# Altium footprint library Conn.RF.PcbLib: 11 footprints
Each footprint in its own frame and in the unit in brackets; x right, y up, seen from the top. Pads: shape width x height; smd on the part's side, far side on the other; paste and mask are expansions set on the pad; w line width, h text height; cw(c..) or ccw(c..) is an arc to the next point about the centre after c.
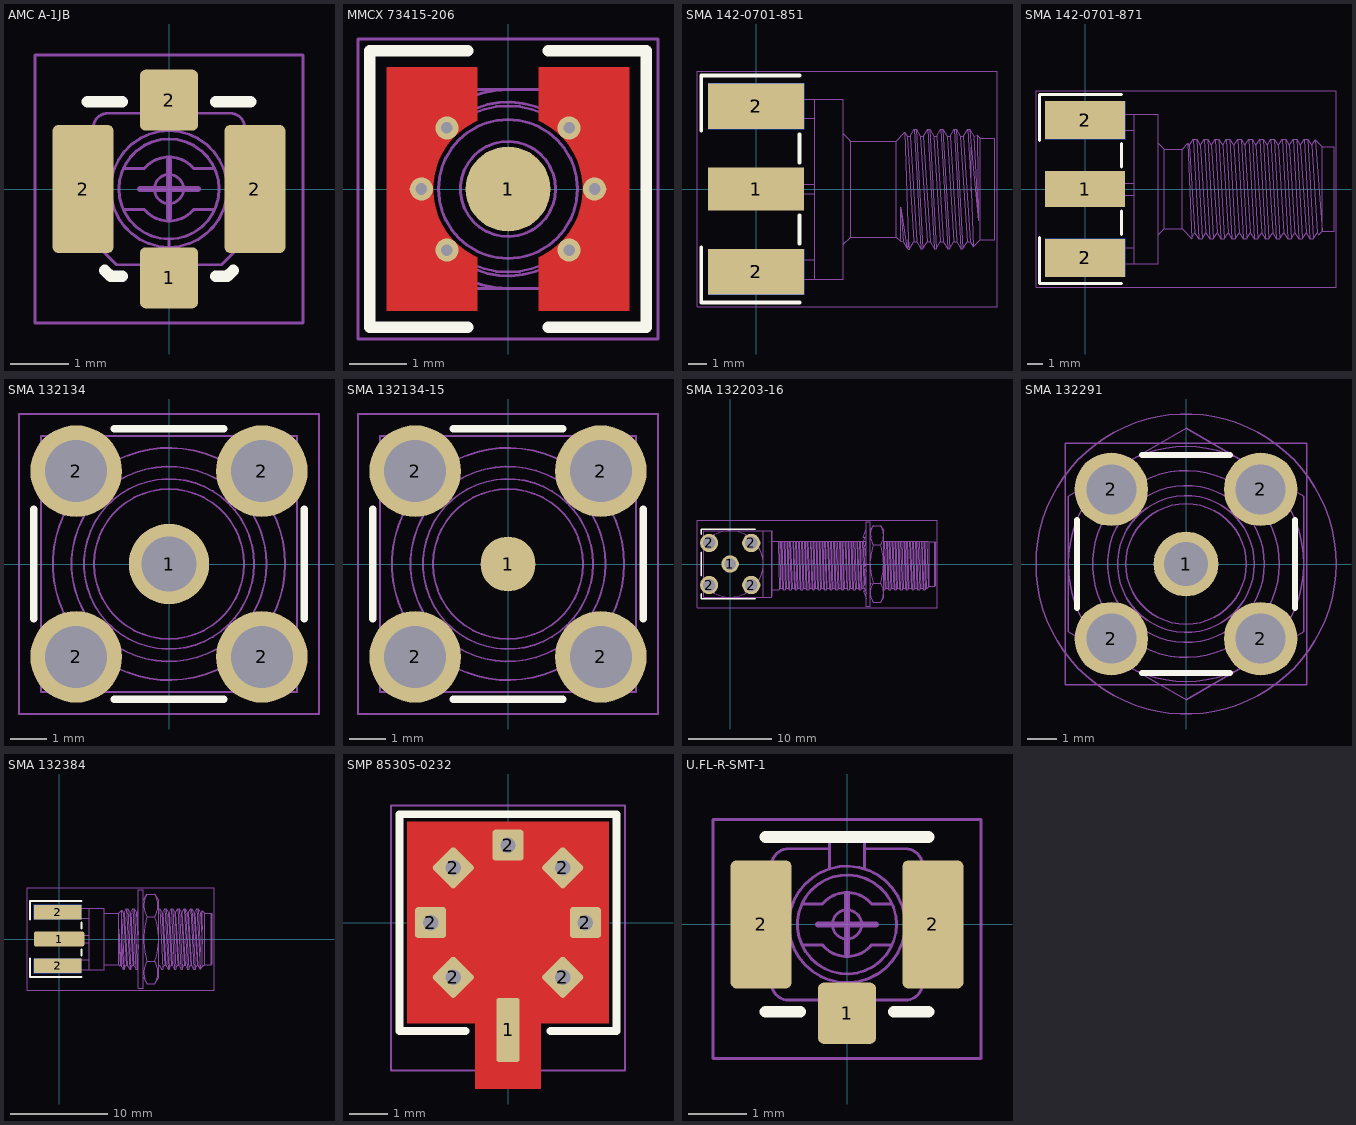
[diagram p0: the footprints below, top view; thin cyan lines are the x and y axes]

## AMC A-1JB [mm] "Amphenol AMC Connector, 3.00x3.10mm"
height 1.35
pads (4):
  rrect20% 1x1.05 smd: 1(0,-1.525) 2(0,1.525)
  rrect20% 1.05x2.2 smd: 2(-1.475,0) 2(1.475,0)
Top Overlay:
  lines w0.2: -1.4,1.5 -0.8,1.5 ; -1.1,-1.4 -1,-1.5 -0.8,-1.5 ; 0.8,-1.5 1,-1.5 1.1,-1.4 ; 0.8,1.5 1.4,1.5
Mechanical 1:
  circle w0.05: c0,0 r0.25
  lines w0.05: -1.3,0.9 -1.5,0.9 -1.5,-0.9 -1.3,-0.9 ; -0.786,-0.35 -0.424,-0.35 ccw(c0,0) 0.424,-0.35 0.786,-0.35 ; -0.786,0.35 -0.424,0.35 cw(c0,0) 0.424,0.35 0.786,0.35 ; -0.3,-1.3 -0.3,-1.55 0.3,-1.55 0.3,-1.3 ; -0.3,1.3 -0.3,1.55 0.3,1.55 0.3,1.3 ; 1.3,0.9 1.5,0.9 1.5,-0.9 1.3,-0.9 ; -1.3,-0.9 -0.9,-1.3 0.9,-1.3 1.3,-0.9 ; -1.3,-0.9 -1.3,1.05 cw(c-1.05,1.05) -1.05,1.3 1.05,1.3 cw(c1.05,1.05) 1.3,1.05 1.3,-0.9 ; -0.005,-1 cw(c0,0) 0.005,-1 0.005,-0.86 ccw(c0,0) -0.005,-0.86 -0.005,-1
Mechanical 15:
  lines w0.05: -2.3,-2.3 2.3,-2.3 2.3,2.3 -2.3,2.3 -2.3,-2.3
  lines w0.1: -0.5,0 0.5,0 ; 0,-0.5 0,0.5
3D body "A-1JB.STEP": height 1.25, standoff 0, extent -1.5,-1.55 1.5,1.55

## MMCX 73415-206 [mm] "Molex MMCX Vertical Jack"
height 5
pads (4):
  round 1.47 smd: 1(0,0) 1(0,0)
  round 0.025 smd: 2(-1.702,0) 2(1.703,0)
via 1.5,0 diameter 0.4 hole 0.2
via 1.061,-1.061 diameter 0.4 hole 0.2
via 1.061,1.061 diameter 0.4 hole 0.2
via -1.061,-1.061 diameter 0.4 hole 0.2
via -1.061,1.061 diameter 0.4 hole 0.2
via -1.5,0 diameter 0.4 hole 0.2
Top Layer:
  region: 2.105,-2.11 0.535,-2.11 0.535,-1.18 0.602,-1.148 0.73,-1.072 0.848,-0.982 0.955,-0.879 1.05,-0.764 1.131,-0.64 1.197,-0.506 1.247,-0.367 1.281,-0.222 1.298,-0.074 1.298,0.074 1.281,0.222 1.247,0.367 1.197,0.506 1.131,0.639 1.05,0.764 0.955,0.879 0.848,0.982 0.73,1.072 0.602,1.147 0.535,1.18 0.535,2.11 2.105,2.11
  region: -2.105,-2.11 -0.535,-2.11 -0.535,-1.18 -0.602,-1.148 -0.73,-1.072 -0.848,-0.982 -0.955,-0.879 -1.05,-0.764 -1.131,-0.64 -1.197,-0.506 -1.247,-0.367 -1.281,-0.222 -1.298,-0.074 -1.298,0.074 -1.281,0.222 -1.247,0.367 -1.197,0.506 -1.131,0.639 -1.05,0.764 -0.955,0.879 -0.848,0.982 -0.73,1.072 -0.602,1.147 -0.535,1.18 -0.535,2.11 -2.105,2.11
Top Overlay:
  lines w0.2: -0.7,-2.4 -2.4,-2.4 -2.4,2.4 -0.7,2.4 ; 0.7,-2.4 2.4,-2.4 2.4,2.4 0.7,2.4
Mechanical 1:
  circle w0.05: c0,0 r1.441
  circle w0.05: c0,0 r1.507
  circle w0.05: c0,0 r1.205
  circle w0.05: c0,0 r0.826
  circle w0.05: c0,0 r0.355
  circle w0.05: c0,0 r0.06
  lines w0.05: -0.347,-0.073 -0.347,-0.01 ; -0.347,0.073 -0.347,0.01 ; 0,-1.725 cw(c0,0) 0,1.725 ; 0.347,-0.073 0.347,-0.01 ; 0.347,0.073 0.347,0.01 ; -0.347,-0.01 ccw(c0,0.067) 0.347,-0.01 ; -0.347,-0.01 -0.295,-0.01 ; -0.347,0.01 cw(c0,-0.067) 0.347,0.01 ; -0.347,0.01 -0.295,0.01 ; -0.295,-0.01 ccw(c0,0.067) 0.295,-0.01 ; -0.295,-0.01 -0.216,-0.013 ccw(c0,0.064) 0.216,-0.013 0.295,-0.01 ; -0.295,0.01 cw(c0,-0.067) 0.295,0.01 ; -0.295,0.01 -0.216,0.013 cw(c0,-0.064) 0.216,0.013 0.295,0.01 ; 0.295,-0.01 0.347,-0.01 ; 0.295,0.01 0.347,0.01 ; -1.725,-1.725 1.725,-1.725 1.725,1.725 -1.725,1.725 -1.725,-1.725
Mechanical 15:
  lines w0.05: -2.6,-2.6 2.6,-2.6 2.6,2.6 -2.6,2.6 -2.6,-2.6
  lines w0.1: -0.5,0 0.5,0 ; 0,-0.5 0,0.5
3D body "MMCX 73415-2063.STEP": height 5.01, standoff 0, extent -1.725,-1.725 1.725,1.725

## SMA 142-0701-851 [mil] "SMA Header, Edge Mount, 8.0mm Length"
height 170.87
pads (5):
  rect 200x90 smd: 1(0,0)
  rect 200x95 smd far side: 2(0,-172.5) 2(0,172.5)
  rect 200x95 smd: 2(0,-172.5) 2(0,172.5)
Top Overlay:
  lines w7.87: -114.17,-122.05 -114.17,-236.22 90.55,-236.22 ; -114.17,122.05 -114.17,236.22 90.55,236.22 ; 90.55,-114.17 90.55,-55.12 ; 90.55,55.12 90.55,114.17
Mechanical 1:
  lines w1.97: 122.05,-187.5 122.05,187.5 ; 122.05,-147.5 -64.95,-147.5 -64.95,-187.5 182.05,-187.5 182.05,187.5 -64.95,187.5 -64.95,147.5 122.05,147.5 ; 122.05,-10 47.05,-10 47.05,10 122.05,10 ; 182.05,-115 197.05,-100 ; 182.05,115 197.05,100 ; 390.33,-109.77 376.44,109.77 ; 432.02,109.76 425.73,109.76 ; 444.83,124.76 448.05,87.02 ; 461.16,111.82 453.51,109.77 ; 197.05,-100 292.05,-100 ; 197.05,-100 197.05,100 ; 197.05,100 292.05,100 ; 292.05,-100 301.15,-109.11 ; 292.05,-100 292.05,100 ; 292.05,100 309.8,117.76 ; 301.16,-109.09 307.03,-109.83 ; 301.16,-109.09 301.25,-37.55 ; 301.25,-37.55 314.43,-122.39 ; 301.25,-37.55 307.03,-109.83 ; 307.03,-109.83 314.43,-122.39 ; 309.8,117.76 317.05,-105.29 ; 309.8,117.76 314.62,109.77 ; 314.43,-122.39 317.05,-125 ; 314.62,109.77 328.51,-109.77 ; 314.62,109.77 320.89,109.77 ; 317.05,-125 319.55,-125 ; 317.05,-125 317.05,-105.29 ; 317.05,-105.29 319.55,-125 ; 319.55,-125 328.51,-109.77 ; 320.88,109.76 334.78,-109.77 ; 320.88,109.76 329.55,124.74 ; 328.51,-109.77 334.78,-109.77 ; 329.55,124.74 343.45,-124.75 ; 329.55,124.74 333.73,124.74 ; 333.73,124.74 347.58,-124.81 ; 333.73,124.74 342.4,109.76 ; 334.78,-109.77 343.45,-124.75 ; 342.4,109.76 356.25,-109.82 ; 342.4,109.76 348.67,109.77 ; 343.45,-124.75 347.58,-124.81 ; 347.58,-124.81 356.25,-109.82 ; 348.67,109.77 362.56,-109.78 ; 348.67,109.77 357.34,124.75 ; 356.25,-109.82 362.56,-109.78 ; 357.34,124.75 371.23,-124.76 ; 357.34,124.75 361.52,124.73 ; 361.52,124.73 375.37,-124.79 ; 361.52,124.73 370.19,109.75 ; 362.56,-109.78 371.23,-124.76 ; 370.19,109.75 384.04,-109.81 ; 370.19,109.75 376.44,109.77 ; 371.23,-124.76 375.37,-124.79 ; 375.37,-124.79 384.04,-109.81 ; 376.44,109.77 385.11,124.75 ; 384.04,-109.81 390.36,-109.81 399,-124.75 ; 385.11,124.75 399,-124.75 ; 385.11,124.75 389.29,124.74 ; 389.29,124.74 403.17,-124.76 ; 389.29,124.74 397.96,109.75 ; 397.96,109.75 411.83,-109.78 ; 397.96,109.75 404.22,109.75 ; 399,-124.75 403.17,-124.76 ; 403.17,-124.76 411.83,-109.78 ; 404.22,109.77 418.1,-109.76 ; 404.22,109.75 412.89,124.74 ; 411.83,-109.78 418.1,-109.76 ; 412.89,124.74 426.77,-124.74 ; 412.89,124.74 417.07,124.74 ; 417.06,124.75 430.95,-124.75 ; 417.06,124.75 425.73,109.76 ; 418.1,-109.76 426.77,-124.74 ; 425.73,109.76 439.62,-109.77 ; 426.77,-124.74 430.95,-124.74 ; 430.95,-124.74 439.62,-109.77 ; 439.62,-109.77 445.88,-109.75 ; 440.69,124.78 448.05,-4.39 ; 440.69,124.78 444.83,124.78 453.51,109.77 ; 440.69,124.78 432.02,109.8 445.88,-109.75 ; 445.88,-109.75 452.41,-120.64 ; 448.05,-4.39 448.05,87.02 ; 448.05,-4.39 452.41,-120.64 ; 448.05,87.02 463,-66.14 ; 452.41,-120.64 467.05,-106 ; 453.51,109.77 463,-66.14 ; 463,-66.14 461.16,111.89 467.05,106 ; 467.05,-106 497.05,-106 497.05,106 467.05,106 ; 467.05,-106 467.05,106
Mechanical 15:
  lines w1.97: -123.03,-245.08 501.97,-245.08 501.97,245.08 -123.03,245.08 -123.03,-245.08
  lines w3.94: -19.68,0 19.68,0 ; 0,-19.68 0,19.68
3D body "142-0701-851.STEP": height 160.72, standoff -151.28, extent -64.95,-187.5 497.05,187.5

## SMA 142-0701-871 [mil] "SMA Header, Edge Mount, 11.8mm Length"
height 170.87
pads (5):
  rect 200x90 smd: 1(0,0)
  rect 200x95 smd far side: 2(0,-172.5) 2(0,172.5)
  rect 200x95 smd: 2(0,-172.5) 2(0,172.5)
Top Overlay:
  lines w7.87: -114.17,-122.05 -114.17,-236.22 90.55,-236.22 ; -114.17,122.05 -114.17,236.22 90.55,236.22 ; 90.55,-114.17 90.55,-55.12 ; 90.55,55.12 90.55,114.17
Mechanical 1:
  lines w1.97: 122.05,-187.5 122.05,187.5 ; 122.05,-147.5 -64.95,-147.5 -64.95,-187.5 182.05,-187.5 182.05,187.5 -64.95,187.5 -64.95,147.5 122.05,147.5 ; 122.05,-15 -59.95,-15 ; 122.05,15 -59.95,15 ; 182.05,-115 197.05,-100 ; 182.05,115 197.05,100 ; -59.95,-15 -64.95,-10 -64.95,10 -59.95,15 ; -59.95,-15 -59.95,15 ; 197.05,-100 242.05,-100 ; 197.05,-100 197.05,100 ; 197.05,100 242.05,100 ; 242.05,-100 265.81,-123.77 ; 242.05,-100 242.05,100 ; 242.05,100 256.6,114.55 ; 256.6,114.55 260.11,108.79 ; 256.6,114.55 265.81,-123.77 ; 260.11,108.79 269.63,125 ; 260.11,108.79 274.01,-108.79 ; 265.81,-123.77 274.01,-108.79 ; 269.63,125 278.38,125 ; 269.63,125 283.53,-125 ; 274.01,-108.79 283.53,-125 ; 278.38,125 287.91,108.8 ; 278.38,125 292.28,-125 ; 283.53,-125 292.28,-125 ; 287.91,108.8 297.43,125 ; 287.91,108.8 301.8,-108.79 ; 292.28,-125 301.8,-108.79 ; 297.43,125 306.18,125 ; 297.43,125 311.33,-125 ; 301.8,-108.79 311.33,-125 ; 306.18,125 315.71,108.79 ; 306.18,125 320.08,-125 ; 311.33,-125 320.08,-125 ; 315.71,108.79 325.23,125 ; 315.71,108.79 329.61,-108.8 ; 320.08,-125 329.61,-108.8 ; 325.23,125 333.98,125 ; 325.23,125 339.13,-125 ; 329.61,-108.8 339.13,-125 ; 333.98,125 343.51,108.8 ; 333.98,125 347.88,-125 ; 339.13,-125 347.88,-125 ; 343.51,108.8 353.03,125 ; 343.51,108.8 357.4,-108.79 ; 347.88,-125 357.4,-108.79 ; 353.03,125 361.78,125 ; 353.03,125 366.93,-125 ; 357.4,-108.79 366.93,-125 ; 361.78,125 371.31,108.79 ; 361.78,125 375.68,-125 ; 366.93,-125 375.68,-125 ; 371.31,108.79 380.83,125 ; 371.31,108.79 385.21,-108.8 ; 375.68,-125 385.21,-108.8 ; 380.83,125 389.58,125 ; 380.83,125 394.73,-125 ; 385.21,-108.8 394.73,-125 ; 389.58,125 399.11,108.8 ; 389.58,125 403.48,-125 ; 394.73,-125 403.48,-125 ; 399.11,108.8 408.63,125 ; 399.11,108.8 413,-108.79 ; 403.48,-125 413,-108.79 ; 408.63,125 417.38,125 ; 408.63,125 422.53,-125 ; 413,-108.79 422.53,-125 ; 417.38,125 426.91,108.79 ; 417.38,125 431.28,-125 ; 422.53,-125 431.28,-125 ; 426.9,108.79 436.43,125 ; 426.9,108.79 440.81,-108.79 ; 431.28,-125 440.81,-108.79 ; 436.43,125 445.18,125 ; 436.43,125 450.33,-125 ; 440.81,-108.79 450.33,-125 ; 445.18,125 454.71,108.8 ; 445.18,125 459.08,-125 ; 450.33,-125 459.08,-125 ; 454.71,108.8 464.23,125 ; 454.71,108.8 468.61,-108.8 ; 459.08,-125 468.61,-108.8 ; 464.23,125 472.98,125 ; 464.23,125 478.13,-125 ; 468.61,-108.8 478.13,-125 ; 472.98,125 482.51,108.79 ; 472.98,125 486.88,-125 ; 478.13,-125 486.88,-125 ; 482.51,108.79 492.03,125 ; 482.51,108.79 496.41,-108.79 ; 486.88,-125 496.41,-108.79 ; 492.03,125 500.78,125 ; 492.03,125 505.93,-125 ; 496.41,-108.79 505.93,-125 ; 500.78,125 510.31,108.8 ; 500.78,125 514.68,-125 ; 505.93,-125 514.68,-125 ; 510.3,108.8 519.83,125 ; 510.3,108.8 524.21,-108.79 ; 514.68,-125 524.21,-108.79 ; 519.83,125 528.58,125 ; 519.83,125 533.73,-125 ; 524.21,-108.79 533.73,-125 ; 528.58,125 538.11,108.79 ; 528.58,125 542.48,-125 ; 533.73,-125 542.48,-125 ; 538.11,108.79 547.63,125 ; 538.11,108.79 552.01,-108.79 ; 542.48,-125 552.01,-108.79 ; 547.63,125 556.38,125 ; 547.63,125 561.53,-125 ; 552.01,-108.79 561.53,-125 ; 556.38,125 565.91,108.8 ; 556.38,125 570.28,-125 ; 561.53,-125 570.28,-125 ; 565.91,108.8 574.61,123.44 ; 565.91,108.8 579.81,-108.79 ; 570.28,-125 579.81,-108.79 ; 574.61,123.44 592.05,106 ; 574.61,123.44 592.05,-106 ; 579.81,-108.79 583.38,-114.67 592.05,-106 ; 592.05,-106 622.05,-106 622.05,106 592.05,106 ; 592.05,-106 592.05,106
Mechanical 15:
  lines w1.97: -123.03,-245.08 -123.03,245.08 626.97,245.08 626.97,-245.08 -123.03,-245.08
  lines w3.94: -19.68,0 19.68,0 ; 0,-19.68 0,19.68
3D body "Cinch_142-0701-871.STEP": height 170.96, standoff -141.04, extent -64.94,-187.49 622.05,187.51

## SMA 132134 [mm] "SMA Header, Vertical Mount"
height 9.53
pads (5):
  round 2.2 hole 1.5: 1(0,0)
  round 2.5 hole 1.7: 2(-2.54,-2.54) 2(-2.54,2.54) 2(2.54,-2.54) 2(2.54,2.54)
Top Overlay:
  lines w0.2: -3.7,-1.5 -3.7,1.5 ; -1.5,-3.7 1.5,-3.7 ; -1.5,3.7 1.5,3.7 ; 3.7,-1.5 3.7,1.5
Mechanical 1:
  circle w0.05: c0,0 r3.175
  circle w0.05: c0,0 r0.475
  circle w0.05: c0,0 r2.05
  circle w0.05: c0,0 r2.325
  circle w0.05: c0,0 r2.665
  lines w0.05: -0.458,-0.125 -0.577,-0.125 ; -0.458,0.125 -0.577,0.125 ; 0.458,-0.125 0.577,-0.125 ; 0.458,0.125 0.577,0.125 ; -0.577,-0.125 ccw(c0,0) 0.577,-0.125 ; -0.577,-0.125 -0.623,-0.125 cw(c0,0) -0.623,0.125 -0.577,0.125 ; -0.577,0.125 cw(c0,0) 0.577,0.125 ; 0.577,-0.125 0.623,-0.125 ccw(c0,0) 0.623,0.125 0.577,0.125 ; -3.5,-3.5 3.5,-3.5 3.5,3.5 -3.5,3.5 -3.5,-3.5
Mechanical 15:
  lines w0.05: -4.1,-4.1 -4.1,4.1 4.1,4.1 4.1,-4.1 -4.1,-4.1
  lines w0.1: -0.5,0 0.5,0 ; 0,-0.5 0,0.5
3D body "SMA 132134.STEP": height 9.53, standoff -3.94, extent -3.5,-3.5 3.5,3.5

## SMA 132134-15 [mm] "SMA Header, Vertical Mount"
height 9.53
pads (5):
  round 1.5 smd: 1(0,0)
  round 2.5 hole 1.7: 2(-2.54,-2.54) 2(-2.54,2.54) 2(2.54,-2.54) 2(2.54,2.54)
Top Overlay:
  lines w0.2: -3.7,-1.5 -3.7,1.5 ; -1.5,-3.7 1.5,-3.7 ; -1.5,3.7 1.5,3.7 ; 3.7,-1.5 3.7,1.5
Mechanical 1:
  circle w0.05: c0,0 r2.665
  circle w0.05: c0,0 r2.325
  circle w0.05: c0,0 r2.05
  circle w0.05: c0,0 r0.475
  circle w0.05: c0,0 r3.175
  lines w0.05: -0.458,-0.125 -0.577,-0.125 ; -0.458,0.125 -0.577,0.125 ; 0.458,-0.125 0.577,-0.125 ; 0.458,0.125 0.577,0.125 ; -0.577,-0.125 ccw(c0,0) 0.577,-0.125 ; -0.577,-0.125 -0.623,-0.125 cw(c0,0) -0.623,0.125 -0.577,0.125 ; -0.577,0.125 cw(c0,0) 0.577,0.125 ; 0.577,-0.125 0.623,-0.125 ccw(c0,0) 0.623,0.125 0.577,0.125 ; -3.5,-3.5 -3.5,3.5 3.5,3.5 3.5,-3.5 -3.5,-3.5
Mechanical 15:
  lines w0.05: -4.1,-4.1 4.1,-4.1 4.1,4.1 -4.1,4.1 -4.1,-4.1
  lines w0.1: -0.5,0 0.5,0 ; 0,-0.5 0,0.5
3D body "SMA 132134-15.STEP": height 9.53, standoff -3.94, extent -3.5,-3.5 3.5,3.5

## SMA 132203-16 [mm] "SMA Header, Right-Angle Mount"
height 10.4
pads (5):
  round 2.1 hole 1.4: 1(0,0)
  round 2.2 hole 1.5: 2(-2.54,-2.54) 2(-2.54,2.54) 2(2.54,-2.54) 2(2.54,2.54)
Top Overlay:
  lines w0.2: -3.5,-3.6 -3.5,-4.2 3,-4.2 ; -3.5,-1.4 -3.5,1.4 ; -3.5,3.6 -3.5,4.2 3,4.2
Mechanical 1:
  drawing of 273 lines, arcs and shapes, not listed
Mechanical 15:
  lines w0.05: -4,-5.3 -4,5.3 25,5.3 25,-5.3 -4,-5.3
  lines w0.1: -0.5,0 0.5,0 ; 0,-0.5 0,0.5
3D body "SMA 132203-16.STEP": height 11.5, standoff -3.9, extent -3.2,-5.086 24.8,5.086

## SMA 132291 [mm] "SMA Header, Vertical Mount"
height 17.58
pads (5):
  round 2.2 hole 1.5: 1(0,0)
  round 2.5 hole 1.7: 2(-2.54,-2.54) 2(-2.54,2.54) 2(2.54,-2.54) 2(2.54,2.54)
Top Overlay:
  lines w0.2: -3.7,-1.5 -3.7,1.5 ; -1.5,-3.7 1.5,-3.7 ; -1.5,3.7 1.5,3.7 ; 3.7,-1.5 3.7,1.5
Mechanical 1:
  circle w0.05: c0,0 r3.175
  circle w0.05: c0,0 r0.475
  circle w0.05: c0,0 r2.05
  circle w0.05: c0,0 r2.325
  circle w0.05: c0,0 r2.665
  circle w0.05: c0,0 r4
  circle w0.05: c0,0 r5.1
  lines w0.05: -0.458,-0.125 -0.577,-0.125 ; -0.458,0.125 -0.577,0.125 ; 0.458,-0.125 0.577,-0.125 ; 0.458,0.125 0.577,0.125 ; -0.577,-0.125 ccw(c0,0) 0.577,-0.125 ; -0.577,-0.125 -0.623,-0.125 cw(c0,0) -0.623,0.125 -0.577,0.125 ; -0.577,0.125 cw(c0,0) 0.577,0.125 ; 0.577,-0.125 0.623,-0.125 ccw(c0,0) 0.623,0.125 0.577,0.125 ; -4,-2.309 -2,-3.464 0,-4.619 2,-3.464 4,-2.309 4,0 4,2.309 2,3.464 0,4.619 -2,3.464 -4,2.309 -4,0 -4,-2.309
Mechanical 15:
  lines w0.05: -4.1,-4.1 4.1,-4.1 4.1,4.1 -4.1,4.1 -4.1,-4.1
  lines w0.1: -0.5,0 0.5,0 ; 0,-0.5 0,0.5
3D body "SMA 132291.STEP": height 17.58, standoff -3.94, extent -5.088,-5.1 5.088,5.1

## SMA 132384 [mm] "SMA Header, Edge Mount, 11.13mm Length"
pads (5):
  rrect20% 5.2x1.5 smd: 1(0,0)
  rect 4.9x1.5 smd: 2(-0.15,-2.77) 2(-0.15,2.77)
  rect 4.9x1.5 smd far side: 2(-0.15,-2.77) 2(-0.15,2.77)
Top Overlay:
  lines w0.2: -3,-2 -3,-3.9 2.3,-3.9 ; -3,2 -3,3.9 2.3,3.9 ; 2.3,-1.7 2.3,-1.1 ; 2.3,1.1 2.3,1.7
Mechanical 1:
  drawing of 173 lines, arcs and shapes, not listed
Mechanical 15:
  lines w0.05: -3.3,-5.3 16,-5.3 16,5.3 -3.3,5.3 -3.3,-5.3
  lines w0.1: -0.5,0 0.5,0 ; 0,-0.5 0,0.5
3D body "SMA_132384.STEP": height 5.48, standoff -4.72, extent -1.65,-5.088 15.8,5.088

## SMP 85305-0232 [mm] "Molex SMP 85305-0232 Header"
height 4.1
pads (8):
  rrect20% 0.6x1.65 smd paste+0 mask+0.1: 1(0,-2.775)
  rrect20% 0.8x0.8 smd paste-0.054 mask+0.102: 2(-2,0) 2(0,2) 2(2,0)
  rrect20% 0.8x0.8 smd rot 135 paste-0.054 mask+0.102: 2(-1.414,-1.414) 2(1.414,1.414)
  rrect20% 0.8x0.8 smd rot 45 paste-0.054 mask+0.102: 2(-1.414,1.414) 2(1.414,-1.414)
via 1.414,-1.414 diameter 0.8 hole 0.4
via 2,0 diameter 0.8 hole 0.4
via 1.414,1.414 diameter 0.8 hole 0.4
via 0,2 diameter 0.8 hole 0.4
via -1.414,1.414 diameter 0.8 hole 0.4
via -2,0 diameter 0.8 hole 0.4
via -1.414,-1.414 diameter 0.8 hole 0.4
Top Layer:
  pour cut-out: -0.85,-4.3 -0.85,-1.356 -0.996,-1.264 -1.243,-1.022 -1.433,-0.733 -1.556,-0.41 -1.608,-0.069 -1.585,0.276 -1.49,0.608 -1.326,0.912 -1.1,1.174 -0.824,1.382 -0.51,1.526 -0.173,1.6 0.173,1.6 0.51,1.526 0.824,1.382 1.1,1.174 1.326,0.912 1.49,0.608 1.585,0.276 1.608,-0.069 1.556,-0.41 1.433,-0.733 1.243,-1.022 0.996,-1.264 0.85,-1.356 0.85,-4.3
  region: -2.6,-2.6 -2.6,2.6 2.6,2.6 2.6,-2.6 0.85,-2.6 0.85,-1.356 0.991,-1.257 1.236,-1.017 1.425,-0.729 1.547,-0.408 1.599,-0.069 1.577,0.274 1.482,0.604 1.319,0.907 1.095,1.167 0.82,1.374 0.508,1.517 0.172,1.591 -0.171,1.591 -0.507,1.517 -0.819,1.374 -1.094,1.168 -1.318,0.907 -1.481,0.605 -1.576,0.275 -1.598,-0.068 -1.547,-0.408 -1.424,-0.729 -1.236,-1.016 -0.99,-1.257 -0.85,-1.356 -0.85,-2.6
Top Overlay:
  lines w0.2: -1.1,-2.8 -2.8,-2.8 -2.8,2.8 2.8,2.8 2.8,-2.8 1.1,-2.8
Top Solder:
  region: -0.35,-3.7 0.35,-3.7 0.35,-1.85 -0.35,-1.85
  region: -2.6,-2.6 -2.6,2.6 2.6,2.6 2.6,-2.6 0.725,-2.6 0.725,-1.2 0.724,-1.198 0.873,-1.094 1.125,-0.833 1.301,-0.516 1.39,-0.165 1.386,0.198 1.289,0.547 1.105,0.86 0.847,1.115 0.532,1.295 0.181,1.388 -0.181,1.388 -0.532,1.295 -0.847,1.115 -1.105,0.86 -1.289,0.547 -1.386,0.198 -1.39,-0.165 -1.301,-0.516 -1.125,-0.833 -0.873,-1.094 -0.724,-1.198 -0.725,-1.2 -0.725,-2.6
Mechanical 1:
  circle w0.05: c0,0 r1.1
  circle w0.05: c0,0 r2.303
  circle w0.05: c0,0 r0.2
  circle w0.05: c0,0 r0.05
  circle w0.05: c0,0 r1.525
  circle w0.05: c0,0 r2.1
  circle w0.05: c0,0 r1.865
  circle w0.05: c0,0 r1.765
  lines w0.05: -2.5,-1.261 ccw(c0,0) -1.261,-2.5 ; -2.5,1.261 cw(c0,0) -1.261,2.5 ; -0.2,-2.5 -0.2,-3.494 ccw(c0,-0.025) 0.2,-3.494 0.2,-2.5 ; 1.261,-2.5 ccw(c0,0) 2.5,-1.261 ; 1.261,2.5 cw(c0,0) 2.5,1.261 ; -2.5,-2.077 ccw(c0,0) -2.077,-2.5 2.077,-2.5 ccw(c0,0) 2.5,-2.077 2.5,2.077 ccw(c0,0) 2.077,2.5 -2.077,2.5 ccw(c0,0) -2.5,2.077 -2.5,-2.077
Mechanical 15:
  lines w0.05: -3.025,-3.825 -3.025,3.025 3.025,3.025 3.025,-3.825 -3.025,-3.825
  lines w0.1: -0.5,0 0.5,0 ; 0,-0.5 0,0.5
3D body "SMP 85305-0232.STEP": height 4.1, standoff 0, extent -2.5,-3.499 2.5,2.5

## U.FL-R-SMT-1 [mm] "Hirose U.FL Series Connector, 3.00x3.10mm"
height 1.5
pads (3):
  rrect20% 1x1.05 smd: 1(0,-1.525)
  rrect20% 1.05x2.2 smd: 2(-1.475,0) 2(1.475,0)
Top Overlay:
  lines w0.2: -1.4,-1.5 -0.8,-1.5 ; -1.4,1.5 1.4,1.5 ; 0.8,-1.5 1.4,-1.5
Mechanical 1:
  circle w0.05: c0,0 r1
  circle w0.05: c0,0 r0.85
  circle w0.05: c0,0 r0.25
  lines w0.05: -1.3,-0.9 -1.5,-0.9 -1.5,0.9 -1.3,0.9 ; -0.775,-0.35 -0.424,-0.35 ccw(c0,0) 0.424,-0.35 0.775,-0.35 ; -0.775,0.35 -0.424,0.35 cw(c0,0) 0.424,0.35 0.775,0.35 ; -0.3,-1.3 -0.3,-1.55 0.3,-1.55 0.3,-1.3 ; -0.3,0.954 -0.3,1.55 0.3,1.55 0.3,0.954 ; -0.3,1.3 -1,1.3 ccw(c-1,1) -1.3,1 -1.3,-1 ccw(c-1,-1) -1,-1.3 1,-1.3 ccw(c1,-1) 1.3,-1 1.3,1 ccw(c1,1) 1,1.3 0.3,1.3 ; 1.3,-0.9 1.5,-0.9 1.5,0.9 1.3,0.9
Mechanical 15:
  lines w0.05: -2.3,-2.3 2.3,-2.3 2.3,1.8 -2.3,1.8 -2.3,-2.3
  lines w0.1: -0.5,0 0.5,0 ; 0,-0.5 0,0.5
3D body "U.FL-R-SMT-1.stp": height 1.25, standoff 0, extent -1.499,-1.55 1.501,1.55